# Altium footprint library SG__PCB_Unsorted.PcbLib: 113 footprints (part 4 of 8)
Each footprint in its own frame and in the unit in brackets; x right, y up, seen from the top. Pads: shape width x height; smd on the part's side, far side on the other; paste and mask are expansions set on the pad; w line width, h text height; cw(c..) or ccw(c..) is an arc to the next point about the centre after c.
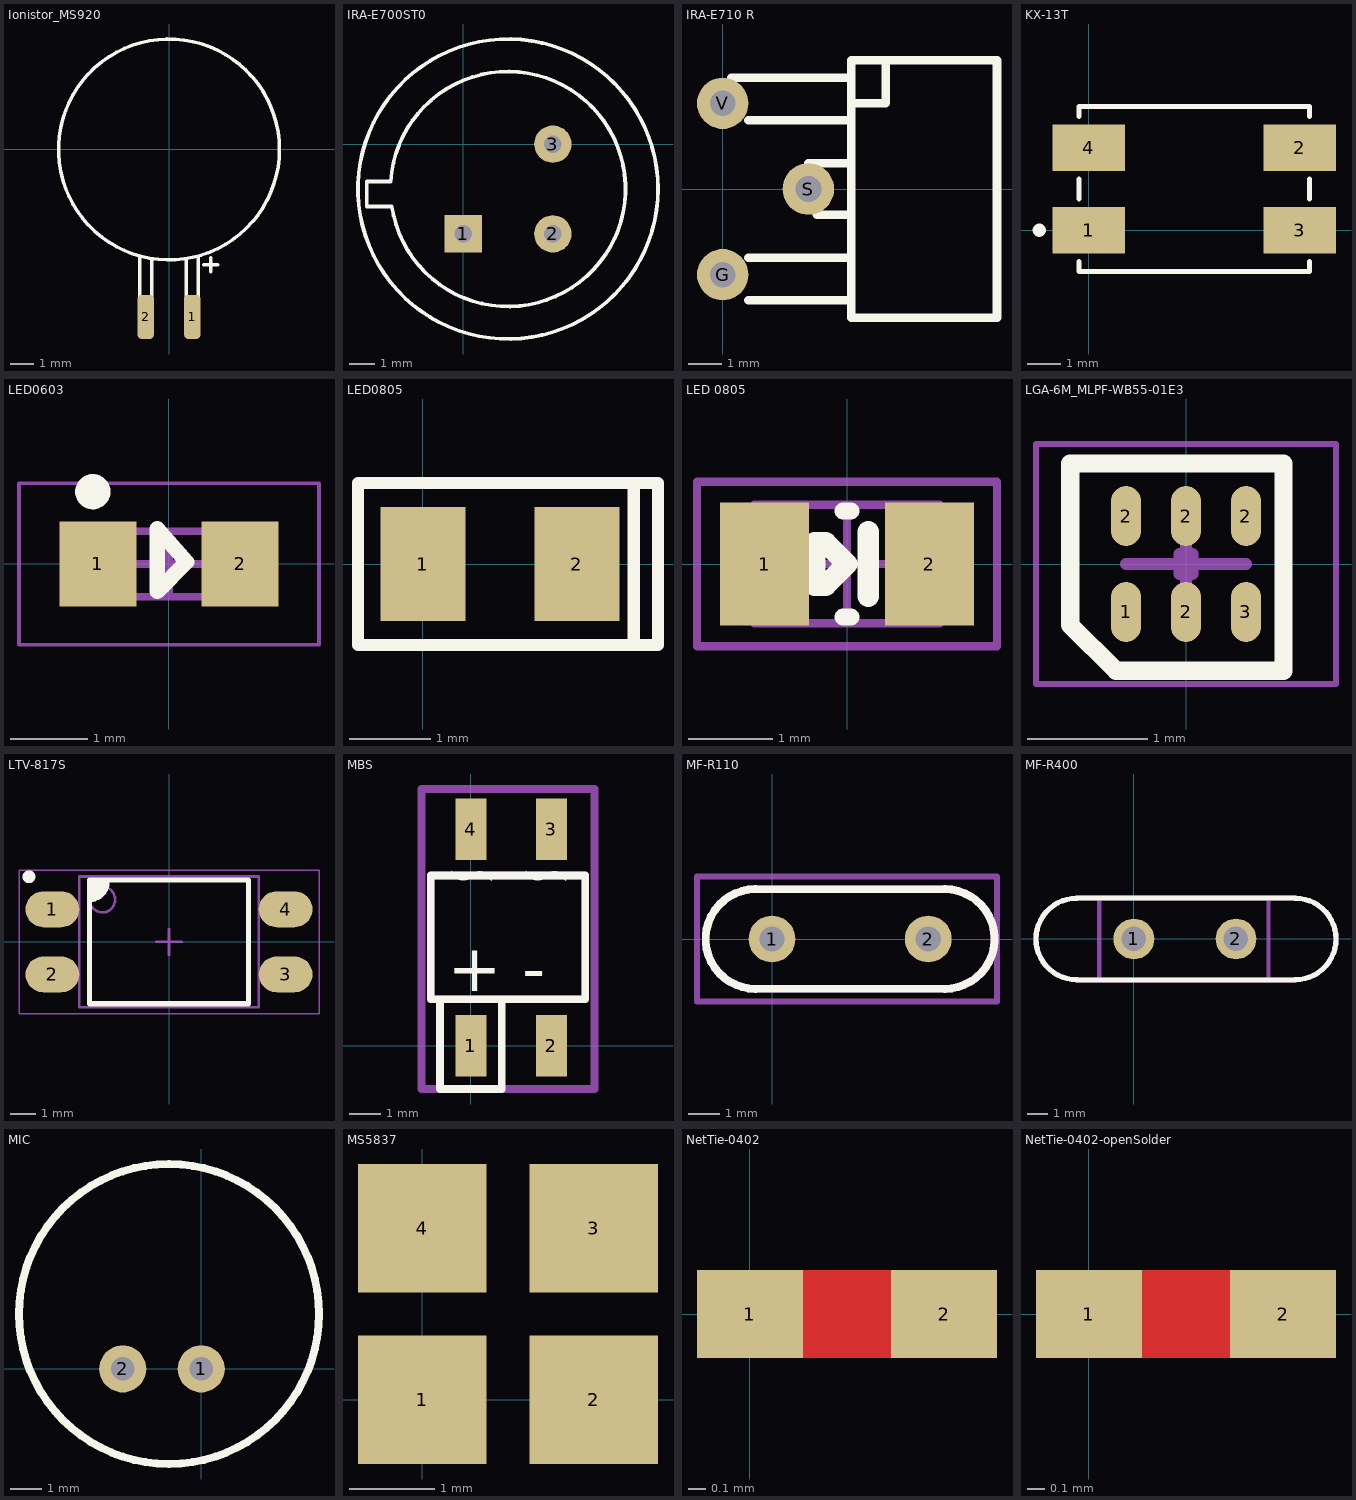
[diagram p3: the footprints below, top view; thin cyan lines are the x and y axes]

## Ionistor_MS920 [mm] "11.0 mAh, 9.5x2.1 mm"
pads (2):
  rrect50% 0.7x1.9 smd mask+0.05: 1(1,-7.2) 2(-1,-7.2)
Top Overlay:
  circle w0.152: c0,0 r4.75
  lines w0.152: -1.25,-6.35 -1.25,-4.608 ; -0.75,-6.35 -0.75,-4.758 ; 0.75,-6.35 0.75,-4.75 ; 1.25,-6.35 1.25,-4.6 ; 1.5,-4.958 2.1,-4.958 ; 1.8,-5.258 1.8,-4.658
3D body: height 2.7, standoff 0, extent -4.75,-4.747 4.75,4.747

## IRA-E700ST0 [mm]
pads (3):
  rect 1.5x1.5 hole 0.7 mask+0.05: 1(0,-3.592)
  round 1.5 hole 0.7 mask+0.05: 2(3.592,-3.592) 3(3.592,0)
Top Overlay:
  circle w0.15: c1.796,-1.796 r6
  lines w0.15: -2.9,-1.5 -3.85,-1.5 -3.85,-2.5 -2.85,-2.5 ; -2.895,-1.5 cw(c1.796,-1.796) -2.851,-2.5

## IRA-E710 R [mil]
pads (3):
  round 60 hole 30: G(0,-100) S(100,0) V(0,100)
Top Overlay:
  lines w10: 10,130 150,130 ; 30,-130 150,-130 ; 30,-80 150,-80 ; 30,80 150,80 ; 100,30 150,30 ; 110,-30 150,-30 ; 150,100 190,100 190,150 ; 150,-150 320,-150 320,150 150,150 150,-150
3D body "IRA-E710(R).stp": height 473.74, standoff -213.03, extent -130.39,-378.1 399.64,370.66

## KX-13T [mm]
pads (4):
  rect 2.2x1.4 smd mask+0.05: 1(0,0) 2(6.4,2.5) 3(6.4,0) 4(0,2.5)
Top Overlay:
  circle w0.2: c-1.5,0 r0.1
  lines w0.15: -0.3,-0.95 -0.3,-1.25 6.7,-1.25 6.7,-0.95 ; -0.3,0.95 -0.3,1.55 ; -0.3,3.45 -0.3,3.75 6.7,3.75 6.7,3.45 ; 6.7,0.95 6.7,1.55
3D body "KX13.step": height 1.31, standoff 0, extent -0.299,-1.281 6.701,3.719

## LED0603 [mm] "Chip Capacitor, 2-Leads, Body 1,60x0,85mm, IPC Low Density"
height 0.9
pads (2):
  rect 1x1.1 smd: 1(-0.925,0) 2(0.925,0)
Top Overlay:
  circle w0.254: c-0.991,0.94 r0.102
  lines w0.2: -0.152,-0.356 0.229,0.025 -0.152,0.457 -0.152,-0.356
Assembly Top:
  lines w0.1: -0.8,-0.425 -0.8,0.425 0.8,0.425 0.8,-0.425 -0.8,-0.425
Courtyard Top:
  lines w0.05: -1.95,-1.05 -1.95,1.05 1.95,1.05 1.95,-1.05 -1.95,-1.05
  lines w0.1: -0.425,0 0.425,0 ; 0,-0.425 0,0.425
3D body "LED0603.step": height 0.6, standoff 0, extent -0.81,-0.4 0.81,0.4

## LED0805 [mm]
pads (2):
  rect 1.05x1.4 smd mask+0.05: 1(0,0) 2(1.9,0)
Top Overlay:
  lines w0.15: 2.6,-1 2.8,-1 2.9,-1 2.9,1 2.6,1 ; 2.6,-1 2.6,1 ; 2.6,-1 -0.8,-1 -0.8,1 2.6,1
3D body "led_0805 GREEN.step": height 1.1, standoff 0, extent -0.121,-0.625 1.899,0.625

## LED 0805 [mm] "Chip LED, 2-Leads, Body 2,1x1,3mm, IPC Medium Density"
height 0.5
pads (2):
  rect 1.05x1.45 smd: 1(-0.975,0) 2(0.975,0)
Top Overlay:
  lines w0.2: -0.05,-0.625 0.05,-0.625 ; -0.05,0.625 0.05,0.625
  lines w0.254: 0.254,-0.381 0.254,-0.254 0.254,0.381 ; -0.381,-0.254 -0.381,0.254 -0.254,0.254 0,0 -0.254,-0.254 -0.381,-0.254
Mechanical 13:
  lines w0.1: -1.1,-0.7 1.1,-0.7 1.1,0.7 -1.1,0.7 -1.1,-0.7
Mechanical 15:
  lines w0.1: -0.5,0 0.5,0 ; 0,-0.5 0,0.5 ; -1.775,-0.975 1.775,-0.975 1.775,0.975 -1.775,0.975 -1.775,-0.975
3D body: height 0.5, standoff 0, extent -1.1,-0.7 1.1,0.7

## LGA-6M_MLPF-WB55-01E3 [mm] "balun for MLPF-WB55-01E3"
height 0.43
pads (6):
  oval 0.25x0.5 smd: 1(-0.5,-0.4) 2(-0.5,0.4) 2(0,-0.4) 2(0,0.4) 2(0.5,0.4) 3(0.5,-0.4)
Top Overlay:
  lines w0.152: -0.965,-0.508 -0.584,-0.889 0.813,-0.889 0.813,0.838 -0.965,0.838 -0.965,-0.508
Assembly Top:
  lines w0.1: -0.055,-0.085 0.055,-0.085 0.055,0.085 -0.055,0.085 -0.055,-0.085
Courtyard Top:
  lines w0.05: -1.25,-1 1.25,-1 1.25,1 -1.25,1 -1.25,-1
  lines w0.1: -0.5,0 0.5,0 ; 0,-0.5 0,0.5
3D body: height 0.25, standoff 0, extent -0.8,-0.5 0.8,0.5

## LTV-817S [mm] "SOP, 4-Leads, Body 4.60x6.50mm, Pitch 2.54mm, IPC Medium Density"
height 4.35
pads (4):
  oval 2.1x1.4 smd: 1(-4.55,1.27) 2(-4.55,-1.27) 3(4.55,-1.27) 4(4.55,1.27)
Top Overlay:
  circle w0.25: c-5.461,2.54 r0.125
  region: -3.1,2.413 -2.413,2.413 -2.413,2.032 -2.794,1.651 -3.1,1.651
  lines w0.2: -3.1,1.651 ccw(c-3.1,2.338) -2.413,2.338 ; -3.1,-2.413 3.1,-2.413 3.1,2.413 -3.1,2.413 -3.1,-2.413
Mechanical 13:
  circle w0.1: c-2.6,1.65 r0.5
  lines w0.1: -3.5,-2.55 3.5,-2.55 3.5,2.55 -3.5,2.55 -3.5,-2.55
Mechanical 15:
  lines w0.05: -5.85,-2.8 5.85,-2.8 5.85,2.8 -5.85,2.8 -5.85,-2.8
  lines w0.1: -0.5,0 0.5,0 ; 0,-0.5 0,0.5
3D body "LTV-817S.STEP": height 3.85, standoff 0, extent -5.098,-2.3 5.098,2.3

## MBS [mm] "Diode Bridge small smd package"
pads (4):
  rect 1x2 smd: 1(0,0) 2(2.6,0) 3(2.6,7) 4(0,7)
Top Overlay:
  lines w0.254: -1.3,1.5 3.7,1.5 3.7,5.5 -1.3,5.5 -1.3,1.5 ; -1,-1.4 -1,1.5 1,1.5 1,-1.4 -1,-1.4
  text "~ ~" at -0.846,6.146 h1.52
  text "+ -" at -0.746,1.754 h1.52
Assembly Top:
  lines w0.254: -1.3,1.5 -1.3,5.5 3.7,5.5 3.7,1.5 -1.3,1.5
Courtyard Top:
  lines w0.254: -1.6,-1.4 -1.6,8.3 4,8.3 4,-1.4 -1.6,-1.4
3D body "User Library-MBS2.STEP": height 3.1, standoff 0.13, extent -1.25,-0.62 3.65,7.62

## MF-R110 [mm] "PTC Fuse 1.1A"
pads (2):
  round 1.5 hole 0.8: 1(0,0) 2(5,0)
Top Overlay:
  lines w0.25: -0.53,-1.594 5.53,-1.594 ; -0.53,1.595 5.53,1.594
  lines w0.254: -0.53,-1.594 cw(c-0.53,0.001) -0.53,1.595 ; 5.53,-1.594 ccw(c5.53,0.001) 5.53,1.595
Assembly Top:
  lines w0.25: -0.53,-1.594 5.53,-1.594 ; -0.53,1.594 5.53,1.595
  lines w0.254: -0.53,-1.594 cw(c-0.53,0.001) -0.53,1.595 ; 5.53,-1.594 ccw(c5.53,0.001) 5.53,1.595
Courtyard Top:
  lines w0.2: -2.4,-2 7.2,-2 7.2,2 -2.4,2 -2.4,-2
3D body "MF-R110.STEP": height 14.95, standoff -6.9, extent -2.256,-3 7.163,2.945

## MF-R400 [mm] "PTC Fuse 1.1A"
pads (2):
  round 2 hole 1.2: 1(0,0) 2(5,0)
Top Overlay:
  lines w0.25: -2.8,-1.999 7.9,-2 ; -2.8,2 7.9,2
  lines w0.254: -2.8,-2 cw(c-2.8,0) -2.8,2 ; 7.9,-2 ccw(c7.9,0) 7.9,2
Assembly Top:
  lines w0.25: -2.8,-2 7.9,-2.001 ; -2.8,1.999 7.9,1.999
  lines w0.254: -2.8,-2.001 cw(c-2.8,-0.001) -2.8,1.999 ; 7.9,-2.001 ccw(c7.9,-0.001) 7.9,1.999
Courtyard Top:
  lines w0.2: -1.7,-2 -1.7,2 6.6,2 6.6,-2 -1.7,-2
3D body "mf-r400.stp": height 27.2, standoff -5.2, extent -4.797,-3.458 9.889,3.167

## MIC [mil]
pads (2):
  round 60 hole 30: 1(0,0) 2(-100,0)
Top Overlay:
  circle w10: c-41.05,70 r191.05
3D body "mic.stp": height 346.46, standoff -39.37, extent -243.32,-121.55 150.39,272.15

## MS5837 [mm] "Pressure sensor"
pads (4):
  rect 1.5x1.5 smd: 1(0,0) 2(2,0) 3(2,2) 4(0,2)
3D body: height 4, standoff 0, extent -0.635,-0.635 2.642,2.667

## NetTie-0402 [mm]
pads (2):
  rect 0.6x0.5 smd paste+0.01 mask+0.102: 1(0,0) 2(1.1,0)
Top Layer:
  rectangle: 0.275,-0.25 0.825,0.25

## NetTie-0402-openSolder [mm]
pads (2):
  rect 0.6x0.5 smd paste+0.01 mask+0.102: 1(0,0) 2(1.1,0)
Top Layer:
  rectangle: 0.275,-0.25 0.825,0.25